# Altium schematic symbol library Inductor.SchLib: 19 symbols
Pins are listed as number, name and electrical type; pins without a type are passive.

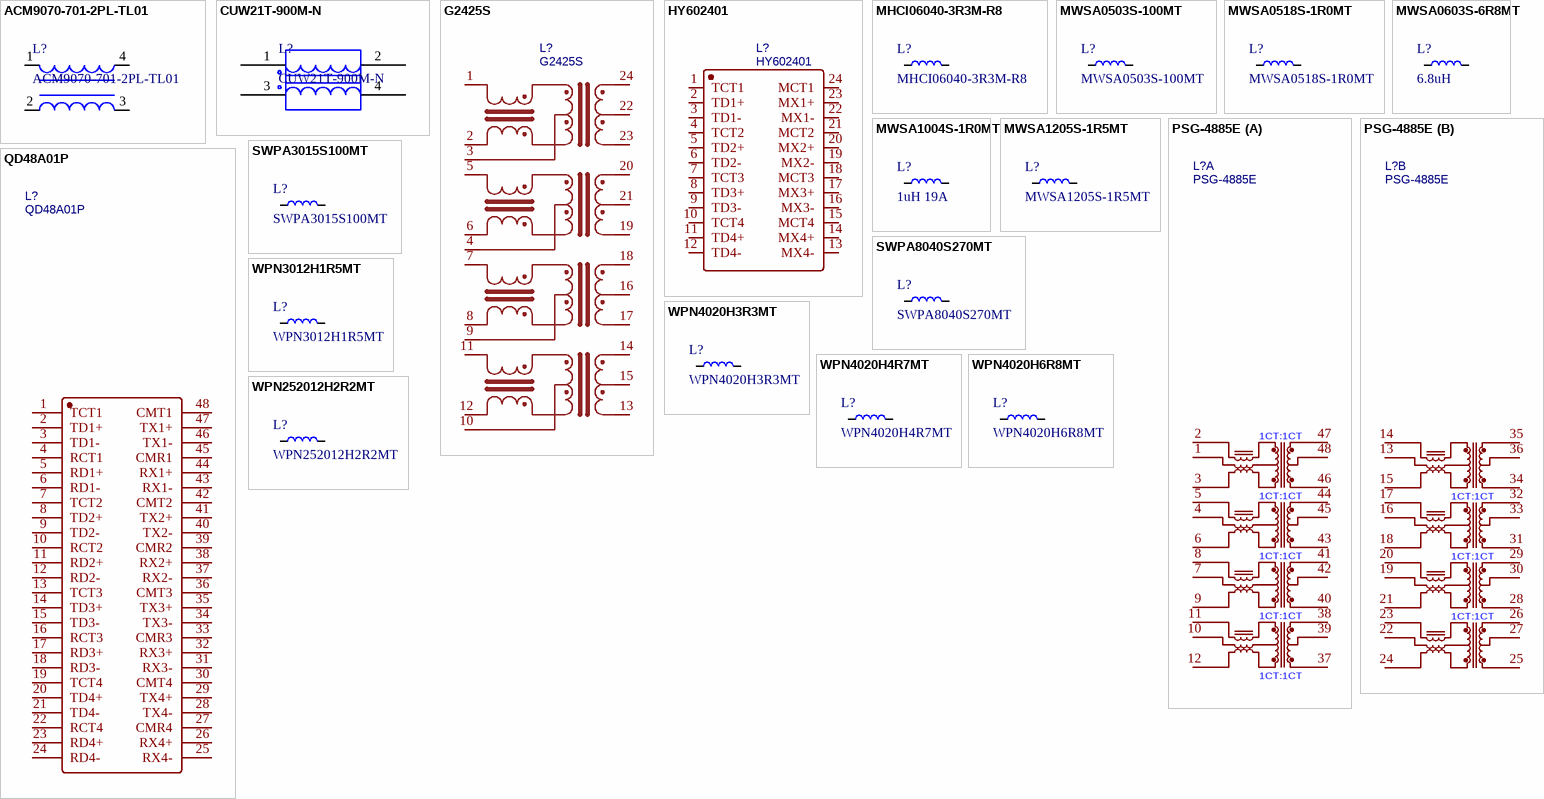
[diagram p0: symbols ACM9070-701-2PL-TL01 to WPN252012H2R2MT]

## ACM9070-701-2PL-TL01
designator L?
CMC 5A 900 OHM SMD
footprint L_TDK_ACM9070
pins: 1, 2, 3, 4

## CUW21T-900M-N
designator L?
CMC 300MA 2LN 90 OHM SMD
footprint L_Chilisin_CUW21T-900M-N
pins: 1, 2, 3, 4

## G2425S
designator L?
BOM_Manufacturer: CND-tek(磁联达); Contributor: LCSC; BOM_Supplier: LCSC; BOM_Supplier Part: C2837257; BOM_Manufacturer Part: G2425S; BOM_JLCPCB Part Class: Extended Part; spicePre: L; spiceSymbolName: G2425S
footprint SMD-24_L16.5-W9.0-P1.27-LS9.7-BL
pins: 1, 2, 3, 4, 5, 6, 7, 8, 9, 10, 11, 12, 13, 14, 15, 16, 17, 18, 19, 20, 21, 22, 23, 24

## HY602401
designator L?
1000M 网口变压器; BOM_Manufacturer: HANRUN; nameAlias: Value; BOM_Supplier: LCSC; BOM_Manufacturer Part: HY602401; BOM_Supplier Part: C55685; BOM_JLCPCB Part Class: Extended Part; spicePre: L; spiceSymbolName: HY602401
footprint XFMR-SMD_HY602401
pins: 1 TCT1, 2 TD1+, 3 TD1-, 4 TCT2, 5 TD2+, 6 TD2-, 7 TCT3, 8 TD3+, 9 TD3-, 10 TCT4, 11 TD4+, 12 TD4-, 13 MX4-, 14 MX4+, 15 MCT4, 16 MX3-, 17 MX3+, 18 MCT3, 19 MX2-, 20 MX2+, 21 MCT2, 22 MX1-, 23 MX1+, 24 MCT1

## MHCI06040-3R3M-R8
designator L?
3.3uH 10A 16mΩ MHCI06040-3R3M-R8
footprint L_Sunlord_MWSA0603S (Precision Wire Wound Inductor, 2-Leads, Body 7.00x6.60mm, IPC Medium Density)
pins: 1, 2

## MWSA0503S-100MT
designator L?
10uH ±20% 3.2A 125mΩ
footprint L_Sunlord_MWSA0503S (Precision Wire Wound Inductor, 2-Leads, Body 7.00x6.60mm, IPC Medium Density)
pins: 1, 2

## MWSA0518S-1R0MT
designator L?
1uH 8A 17mΩ Molded SMD Power Inductors – MWSA Serie
footprint L_Sunlord_MWSA0518S (Precision Wire Wound Inductor, 2-Leads, Body 5.40x5.20mm, IPC Medium Density)
pins: 1, 2

## MWSA0603S-6R8MT
designator L?, comment 6.8uH
6.8uH 5A 58mΩ Molded SMD Power Inductors-MWSA Series
footprint L_Sunlord_MWSA0603S (Precision Wire Wound Inductor, 2-Leads, Body 7.00x6.60mm, IPC Medium Density)
pins: 1, 2

## MWSA1004S-1R0MT
designator L?, comment 1uH 19A
1uH 19A 3.2mΩ Molded SMD Power Inductors – MWSA Serie
footprint L_Sunlord_MWSA1004S (Precision Wire Wound Inductor, 2-Leads, Body 7.00x6.60mm, IPC Medium Density)
pins: 1, 2

## MWSA1205S-1R5MT
designator L?
1.5uH 23A 3.2mΩ Molded SMD Power Inductors – MWSA Serie
footprint L_Sunlord_MWSA1205S (Precision Wire Wound Inductor, 2-Leads, Body 13.45x12.60mm, IPC Medium Density)
pins: 1, 2

## PSG-4885E
designator L?
48P双路网口变压器; BOM_Manufacturer: PPT; Contributor: LCSC; BOM_Supplier: LCSC; BOM_Supplier Part: C913776; BOM_Manufacturer Part: PSG-4885E; spicePre: L; spiceSymbolName: PSG-4885E
footprint XFMR-SMD_48P-L34.0-W12.5-P1.02-LS15.7-BL
part A pins: 1, 2, 3, 4, 5, 6, 7, 8, 9, 10, 11, 12, 37, 38, 39, 40, 41, 42, 43, 44, 45, 46, 47, 48
part B pins: 13, 14, 15, 16, 17, 18, 19, 20, 21, 22, 23, 24, 25, 26, 27, 28, 29, 30, 31, 32, 33, 34, 35, 36
part A text: 1CT:1CT
part B text: 1CT:1CT

## QD48A01P
designator L?
48P双路网口变压器; BOM_Manufacturer: TNK; Contributor: LCSC; BOM_Supplier: LCSC; BOM_Supplier Part: C216383; BOM_Manufacturer Part: QD48A01P; BOM_JLCPCB Part Class: Extended Part; spicePre: L; spiceSymbolName: QD48A01P
footprint XFMR-TH_QD48A01P
pins: 1 TCT1, 2 TD1+, 3 TD1-, 4 RCT1, 5 RD1+, 6 RD1-, 7 TCT2, 8 TD2+, 9 TD2-, 10 RCT2, 11 RD2+, 12 RD2-, 13 TCT3, 14 TD3+, 15 TD3-, 16 RCT3, 17 RD3+, 18 RD3-, 19 TCT4, 20 TD4+, 21 TD4-, 22 RCT4, 23 RD4+, 24 RD4-, 25 RX4-, 26 RX4+, 27 CMR4, 28 TX4-, 29 TX4+, 30 CMT4, 31 RX3-, 32 RX3+, 33 CMR3, 34 TX3-, 35 TX3+, 36 CMT3, 37 RX2-, 38 RX2+, 39 CMR2, 40 TX2-, 41 TX2+, 42 CMT2, 43 RX1-, 44 RX1+, 45 CMR1, 46 TX1-, 47 TX1+, 48 CMT1

## SWPA3015S100MT
designator L?
10uH ±20% 770mA 325mΩ
footprint L_SUNLORD_SWPA3015 (Molded Inductor, 2-Leads, Body 3.00x3.00mm, IPC Medium Density)
pins: 1, 2

## SWPA8040S270MT
designator L?
27uH 2A 78mΩ Wire Wound SMD Power Inductor
footprint L_Sunlord_SWPA8040S270MT (Precision Wire Wound Inductor, 2-Leads, Body 8.00x8.00mm, IPC Medium Density)
pins: 1, 2

## WPN3012H1R5MT
designator L?
1.5uH ±20% 64mΩ
footprint L_SUNLORD_SWPA3015 (Molded Inductor, 2-Leads, Body 3.00x3.00mm, IPC Medium Density)
pins: 1, 2

## WPN4020H3R3MT
designator L?
3.3uH 3.45A 72mΩ Wire Wound SMD Power Inductor WPN4020H3R3MT
footprint L_Sunlord_WPN4020H (Precision Wire Wound Inductor, 2-Leads, Body 4.00x4.00mm, IPC Medium Density)
pins: 1, 2

## WPN4020H4R7MT
designator L?
4.7uH 2.85A 108mΩ Wire Wound SMD Power Inductor
footprint L_Sunlord_WPN4020H (Precision Wire Wound Inductor, 2-Leads, Body 4.00x4.00mm, IPC Medium Density)
pins: 1, 2

## WPN4020H6R8MT
designator L?
6.8uH 2.4A 108mΩ Wire Wound SMD Power Inductor
footprint L_Sunlord_WPN4020H (Precision Wire Wound Inductor, 2-Leads, Body 4.00x4.00mm, IPC Medium Density)
pins: 1, 2

## WPN252012H2R2MT
designator L?
直流电阻(DCR)：120mΩ 电感值：2.2uH 精度：±20% 额定电流：1.9A
footprint L_Sunlord_WPN252012H (Precision Wire Wound Inductor, 2-Leads, Body 2.50x2.00mm, IPC Medium Density)
pins: 1, 2